# Altium footprint library My_Library.PcbLib: 118 footprints (part 3 of 8)
Each footprint in its own frame and in the unit in brackets; x right, y up, seen from the top. Pads: shape width x height; smd on the part's side, far side on the other; paste and mask are expansions set on the pad; w line width, h text height; cw(c..) or ccw(c..) is an arc to the next point about the centre after c.
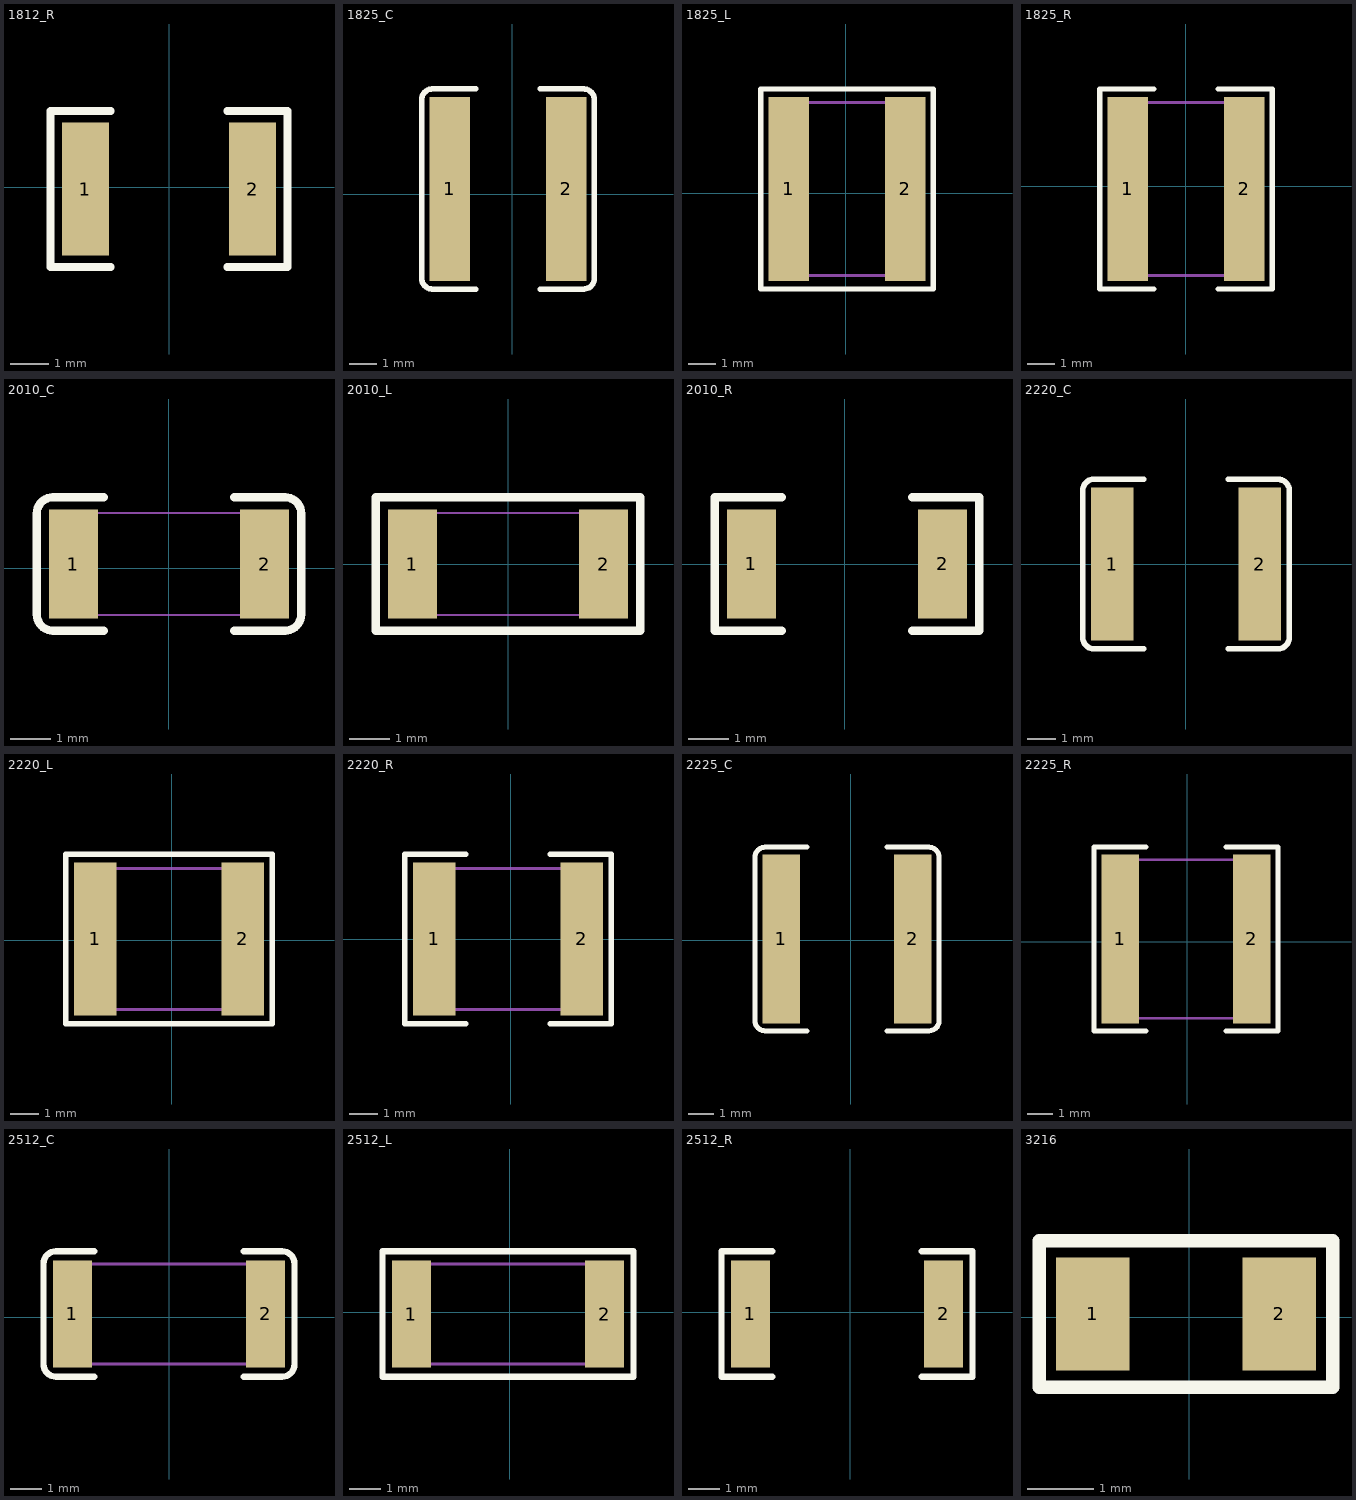
[diagram p2: the footprints below, top view; thin cyan lines are the x and y axes]

## 1812_R [mm]
pads (2):
  rect 1.2x3.42 smd: 1(-2.15,-0.05) 2(2.15,-0.05)
Top Overlay:
  lines w0.2: -1.5,-2.06 -3.05,-2.06 -3.05,1.96 -1.5,1.96 ; 1.5,-2.06 3.05,-2.06 3.05,1.96 1.5,1.96
3D body "R1812.STEP": height 0.59, standoff -0.01, extent -2.251,-1.65 2.249,1.55

## 1825_C [mm]
pads (2):
  rect 1.5x6.81 smd: 1(-2.3,0.2) 2(2,0.2)
Top Overlay:
  lines w0.203: -1.35,-3.505 -2.95,-3.505 cw(c-2.95,-3.105) -3.35,-3.105 -3.35,3.505 cw(c-2.95,3.505) -2.95,3.905 -1.35,3.905 ; 1.05,-3.505 2.65,-3.505 ccw(c2.65,-3.105) 3.05,-3.105 3.05,3.505 ccw(c2.65,3.505) 2.65,3.905 1.05,3.905
3D body "User Library-CAPC4564X13.STEP": height 1.3, standoff 0, extent -2.4,-3 2.1,3.4

## 1825_L [mm]
pads (2):
  rect 1.5x6.81 smd: 1(-2.1,0.15) 2(2.2,0.15)
Top Overlay:
  lines w0.2: -3.15,-3.555 3.25,-3.555 3.25,3.855 -3.15,3.855 -3.15,-3.555
Mechanical 13:
  lines w0.1: -2.25,-3.05 -2.25,3.35 2.35,3.35 2.35,-3.05 -2.25,-3.05

## 1825_R [mm]
pads (2):
  rect 1.5x6.81 smd: 1(-2.15,-0.1) 2(2.15,-0.1)
Top Overlay:
  lines w0.2: -1.2,-3.805 -3.2,-3.805 -3.2,3.605 -1.2,3.605 ; 1.2,-3.805 3.2,-3.805 3.2,3.605 1.2,3.605
Mechanical 13:
  lines w0.1: -2.3,-3.3 -2.3,3.1 2.3,3.1 2.3,-3.3 -2.3,-3.3

## 2010_C [mm]
pads (2):
  rect 1.2x2.67 smd: 1(-2.34,0.1) 2(2.34,0.1)
Top Overlay:
  lines w0.2: -1.6,-1.535 -2.84,-1.535 cw(c-2.84,-1.135) -3.24,-1.135 -3.24,1.335 cw(c-2.84,1.335) -2.84,1.735 -1.6,1.735 ; 1.6,-1.535 2.84,-1.535 ccw(c2.84,-1.135) 3.24,-1.135 3.24,1.335 ccw(c2.84,1.335) 2.84,1.735 1.6,1.735
Mechanical 13:
  lines w0.05: -2.5,-1.15 2.5,-1.15 2.5,1.35 -2.5,1.35 -2.5,-1.15

## 2010_L [mm]
pads (2):
  rect 1.2x2.67 smd: 1(-2.34,0) 2(2.34,0)
Top Overlay:
  lines w0.2: -3.24,-1.635 -3.24,1.635 3.24,1.635 3.24,-1.635 -3.24,-1.635
Mechanical 13:
  lines w0.05: -2.5,-1.25 -2.5,1.25 2.5,1.25 2.5,-1.25 -2.5,-1.25

## 2010_R [mm]
pads (2):
  rect 1.2x2.67 smd: 1(-2.29,0) 2(2.39,0)
Top Overlay:
  lines w0.2: -1.55,-1.635 -3.19,-1.635 -3.19,1.635 -1.55,1.635 ; 1.65,-1.635 3.29,-1.635 3.29,1.635 1.65,1.635
3D body "User Library-R_2010.STEP": height 0.6, standoff 0, extent -2.45,-1.25 2.55,1.25

## 2220_C [mm]
pads (2):
  rect 1.5x5.42 smd: 1(-2.62,0) 2(2.62,0)
Top Overlay:
  lines w0.2: -1.5,-3.01 -3.27,-3.01 cw(c-3.27,-2.61) -3.67,-2.61 -3.67,2.61 cw(c-3.27,2.61) -3.27,3.01 -1.5,3.01 ; 1.5,-3.01 3.27,-3.01 ccw(c3.27,-2.61) 3.67,-2.61 3.67,2.61 ccw(c3.27,2.61) 3.27,3.01 1.5,3.01
3D body "User Library-CAPC5750X23.STEP": height 2.3, standoff 0, extent -2.85,-2.5 2.85,2.5

## 2220_L [mm]
pads (2):
  rect 1.5x5.42 smd: 1(-2.72,0.05) 2(2.52,0.05)
Top Overlay:
  lines w0.2: -3.77,-2.96 -3.77,3.06 3.57,3.06 3.57,-2.96 -3.77,-2.96
Mechanical 13:
  lines w0.1: -3,-2.45 2.8,-2.45 2.8,2.55 -3,2.55 -3,-2.45

## 2220_R [mm]
pads (2):
  rect 1.5x5.42 smd: 1(-2.72,0) 2(2.52,0)
Top Overlay:
  lines w0.2: -1.6,-3.01 -3.77,-3.01 -3.77,3.01 -1.6,3.01 ; 1.4,-3.01 3.57,-3.01 3.57,3.01 1.4,3.01
Mechanical 13:
  lines w0.1: -3,-2.5 2.8,-2.5 2.8,2.5 -3,2.5 -3,-2.5

## 2225_C [mm]
pads (2):
  rect 1.5x6.72 smd: 1(-2.77,0.05) 2(2.47,0.05)
Top Overlay:
  lines w0.2: -1.75,-3.61 -3.42,-3.61 cw(c-3.42,-3.21) -3.82,-3.21 -3.82,3.31 cw(c-3.42,3.31) -3.42,3.71 -1.75,3.71 ; 1.45,-3.61 3.12,-3.61 ccw(c3.12,-3.21) 3.52,-3.21 3.52,3.31 ccw(c3.12,3.31) 3.12,3.71 1.45,3.71
3D body "User Library-CAPC5764X13.STEP": height 1.3, standoff 0, extent -3,-3.125 2.7,3.225

## 2225_R [mm]
pads (2):
  rect 1.5x6.72 smd: 1(-2.67,0.1) 2(2.57,0.1)
Top Overlay:
  lines w0.2: -1.65,-3.56 -3.72,-3.56 -3.72,3.76 -1.65,3.76 ; 1.55,-3.56 3.62,-3.56 3.62,3.76 1.55,3.76
Mechanical 13:
  lines w0.1: -2.9,-3.05 -2.9,3.25 2.8,3.25 2.8,-3.05 -2.9,-3.05

## 2512_C [mm]
pads (2):
  rect 1.25x3.42 smd: 1(-3.1,0.1) 2(3.1,0.1)
Top Overlay:
  lines w0.203: -2.4,-1.91 -3.625,-1.91 cw(c-3.625,-1.51) -4.025,-1.51 -4.025,1.71 cw(c-3.625,1.71) -3.625,2.11 -2.4,2.11 ; 2.4,-1.91 3.625,-1.91 ccw(c3.625,-1.51) 4.025,-1.51 4.025,1.71 ccw(c3.625,1.71) 3.625,2.11 2.4,2.11
Mechanical 13:
  lines w0.1: -3.15,-1.5 -3.15,1.7 3.15,1.7 3.15,-1.5 -3.15,-1.5

## 2512_L [mm]
pads (2):
  rect 1.25x3.42 smd: 1(-3.15,-0.05) 2(3.05,-0.05)
Top Overlay:
  lines w0.2: -4.075,-2.06 -4.075,1.96 3.975,1.96 3.975,-2.06 -4.075,-2.06
Mechanical 13:
  lines w0.1: -3.2,-1.65 -3.2,1.55 3.1,1.55 3.1,-1.65 -3.2,-1.65

## 2512_R [mm]
pads (2):
  rect 1.25x3.42 smd: 1(-3.2,-0.05) 2(3,-0.05)
Top Overlay:
  lines w0.2: -2.5,-2.06 -4.125,-2.06 -4.125,1.96 -2.5,1.96 ; 2.3,-2.06 3.925,-2.06 3.925,1.96 2.3,1.96
3D body "User Library-res2512_body.STEP": height 0.62, standoff 0, extent -3.259,-1.65 3.06,1.55

## 3216 [mm]
pads (2):
  rect 1.1x1.7 smd: 1(-1.45,0.05) 2(1.35,0.05)
Top Overlay:
  lines w0.2: -2.25,-1.05 2.15,-1.05 2.15,1.15 -2.25,1.15 -2.25,-1.05